# Altium footprint library Bridge SMD Package.PcbLib: 1 footprints
Each footprint in its own frame and in the unit in brackets; x right, y up, seen from the top. Pads: shape width x height; smd on the part's side, far side on the other; paste and mask are expansions set on the pad; w line width, h text height; cw(c..) or ccw(c..) is an arc to the next point about the centre after c.
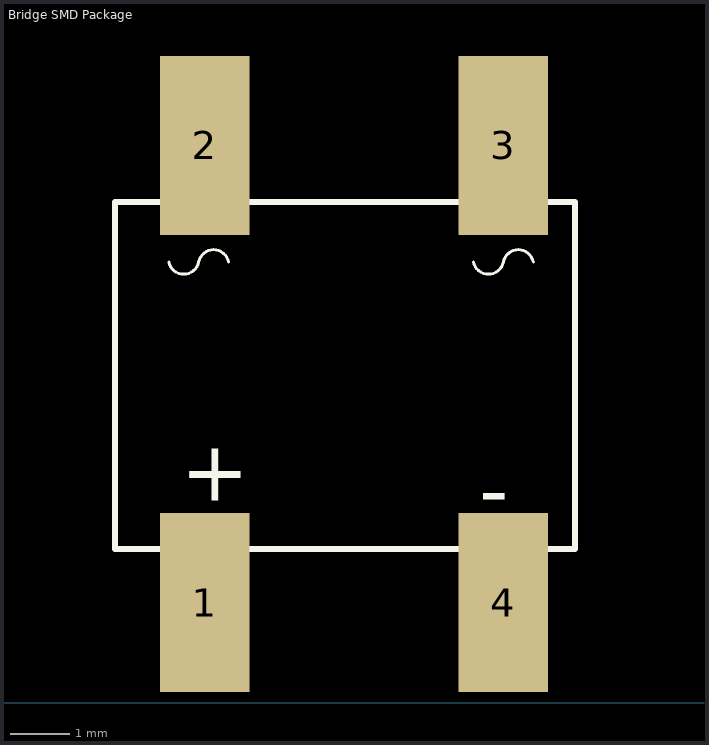
[diagram p0: the footprint, top view; thin cyan lines are the x and y axes]

## Bridge SMD Package [mm]
pads (4):
  rect 1.5x3 smd: 1(4.598,1.675) 2(4.598,9.325) 3(9.598,9.325) 4(9.598,1.675)
Top Overlay:
  lines w0.05: 3.998,7.375 ccw(c4.248,7.425) 4.498,7.375 cw(c4.748,7.325) 4.998,7.375 ; 9.098,7.375 ccw(c9.348,7.425) 9.598,7.375 cw(c9.848,7.325) 10.098,7.375
  lines w0.1: 3.098,2.575 3.098,8.375 10.798,8.375 10.798,2.575 3.098,2.575
  text "+" at 4.198,3.375 h1
  text "-" at 9.198,3.075 h1
3D body "User Library-PONTE-1.STEP": height 2.7, standoff 0, extent 2.998,0.475 11.098,10.625